# EAGLE library part MAX756 (library Fitch_Eagle_Library)
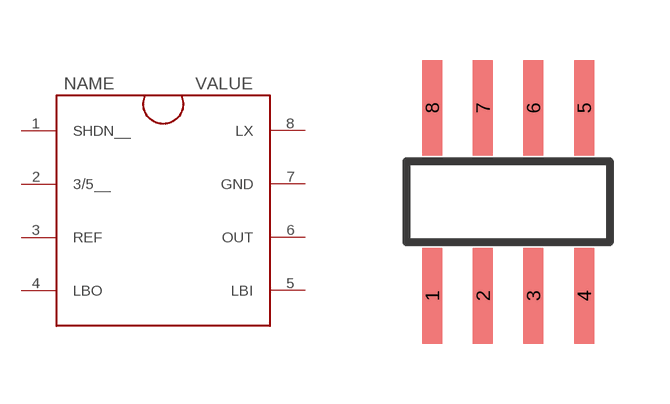
[diagram p0: symbol with the pads of SOIC-8; footprint SOIC-8]

Designator prefix -

## MAX756MAX756  [SOIC-8]
1  SHDN__
2  3/5__
3  REF
4  LBO
5  LBI
6  OUT
7  GND
8  LX

## Footprint SOIC-8 (pad centres in mm)
smd 0.5 x 2.4: 1 -1.9,-2.35; 2 -0.63,-2.35; 3 0.63,-2.35; 4 1.9,-2.35; 5 1.9,2.35; 6 0.63,2.35; 7 -0.63,2.35; 8 -1.9,2.35